# Altium schematic symbol library OPAMs.SchLib: 2 symbols
Pins are listed as number, name and electrical type; pins without a type are passive.

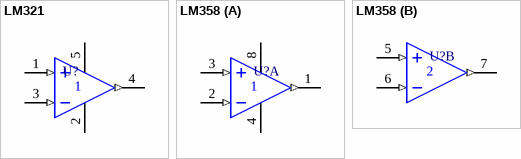
[diagram p0: symbols LM321 to LM358]

## LM321
designator U?  (value not drawn)
General purpose amplifier 2 circuit 8-SOIC
footprint SOT-23-5
pins: 1 IN+ (in), 2 V- (power), 3 IN- (in), 4 OUT (out), 5 V+ (power)

## LM358
designator U?  (value not drawn)
General purpose amplifier 2 circuit 8-SOIC
footprint SOP-8
part A pins: 1 OUT (out), 2 IN- (in), 3 IN+ (in), 4 V- (power), 8 V+ (power)
part B pins: 5 IN+ (in), 6 IN- (in), 7 OUT (out)